# Altium schematic symbol library Oscillators.SchLib: 1 symbol
Pins are listed as number, name and electrical type; pins without a type are passive.

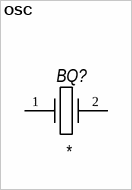
[diagram p0: symbol OSC]

## OSC
designator BQ?
pins: 1, 2